# Altium footprint library btretro_pcblib.PcbLib: 40 footprints (part 2 of 3)
Each footprint in its own frame and in the unit in brackets; x right, y up, seen from the top. Pads: shape width x height; smd on the part's side, far side on the other; paste and mask are expansions set on the pad; w line width, h text height; cw(c..) or ccw(c..) is an arc to the next point about the centre after c.
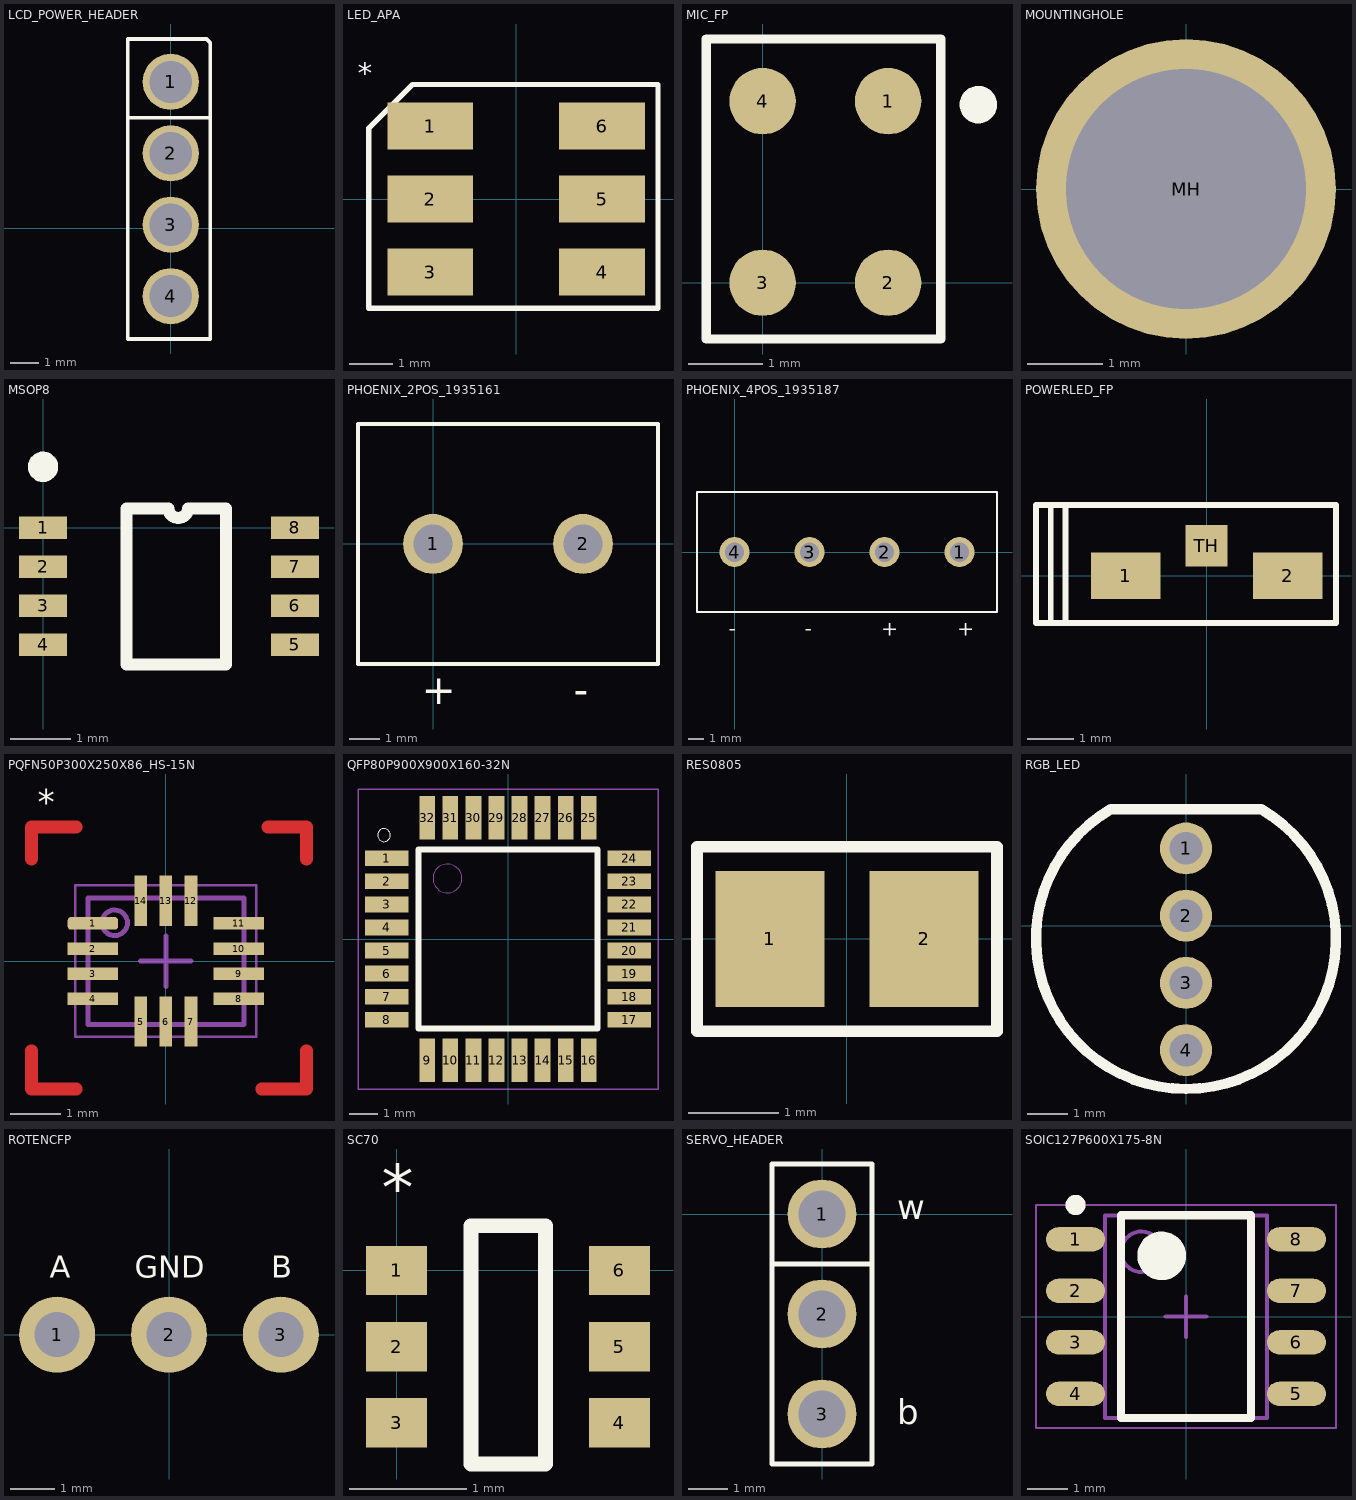
[diagram p1: the footprints below, top view; thin cyan lines are the x and y axes]

## LCD_POWER_HEADER [mm]
pads (4):
  round 2 hole 1.5: 1(0,5.207) 2(0,2.667) 3(0,0.127) 4(0,-2.413)
Top Overlay:
  lines w0.127: -1.524,6.477 -1.524,3.937 1.397,3.937 ; -1.524,6.477 -1.524,-3.937 1.397,-3.937 1.397,3.937 ; -1.524,6.477 -1.524,6.731 1.27,6.731 1.397,6.604 1.397,6.35 1.397,5.493 1.397,4.794 1.397,3.937

## LED_APA [mm]
pads (6):
  rect 2x1.1 smd: 1(-2,1.7) 2(-2,0) 3(-2,-1.7) 4(2,-1.7) 5(2,0) 6(2,1.7)
Top Overlay:
  lines w0.125: -3.429,-2.54 3.302,-2.54 3.302,2.667 -2.413,2.667 -3.429,1.651 -3.429,-2.54
  text "*" at -3.683,2.667 h0.5

## MIC_FP [mm]
pads (4):
  round 0.9 smd: 1(1.7,2.46) 2(1.7,0) 3(0,0) 4(0,2.46)
Top Overlay:
  circle w0.254: c2.921,2.413 r0.127
  lines w0.127: -0.762,-0.762 -0.762,3.302 0.889,3.302 2.413,3.302 2.413,-0.762 -0.762,-0.762

## MOUNTINGHOLE [mm] "mounting hole"
pads (1):
  round 4 hole 3.2 unplated: MH(0,0)

## MSOP8 [mm]
pads (8):
  rect 0.8x0.38 smd: 1(0,0) 2(0,-0.65) 3(0,-1.3) 4(0,-1.95) 5(4.2,-1.95) 6(4.2,-1.3) 7(4.2,-0.65) 8(4.2,0)
Top Overlay:
  circle w0.254: c0,1.016 r0.127
  lines w0.2: 1.389,-2.275 3.048,-2.275 3.048,0.325 2.416,0.325 cw(c2.254,0.325) 2.091,0.325 1.389,0.325 1.389,-2.275

## PHOENIX_2POS_1935161 [mm]
pads (2):
  round 2 hole 1.3: 1(0,0) 2(5,0)
Top Overlay:
  lines w0.127: -2.5,-4 -2.5,4 7.5,4 7.5,-4 -2.5,-4
  text "-" at 4.699,-5.334 h1
  text "+" at -0.381,-5.334 h1

## PHOENIX_4POS_1935187 [mm]
pads (4):
  round 2 hole 1.3: 1(15,0) 2(10,0) 3(5,0) 4(0,0)
Top Overlay:
  lines w0.127: -2.5,-4 -2.5,4 17.5,4 17.5,-4 -2.5,-4
  text "+" at 9.779,-5.588 h1
  text "+" at 14.859,-5.588 h1
  text "-" at -0.381,-5.588 h1
  text "-" at 4.699,-5.588 h1

## POWERLED_FP [mm]
pads (3):
  rect 1.5x1 smd: 1(-1.75,0) 2(1.75,0)
  rect 0.9x0.9 smd: TH(0,0.65)
Top Overlay:
  lines w0.127: -3.365,-1.016 -3.365,1.524 ; -3.048,-1.016 -3.048,1.524 ; -3.048,1.524 2.794,1.524 2.794,1.016 2.794,-1.016 -2.794,-1.016 -3.683,-1.016 -3.683,1.524 -3.048,1.524

## PQFN50P300X250X86_HS-15N [mm] "PQFN, 14-Leads, Body 3.00x2.50mm, Pitch 0.50mm, Thermal Pad 1.45x1.95mm, IPC Medium Density"
height 0.86
pads (14):
  rrect50% 1x0.25 smd mask+0.08: 1(-1.45,0.75)
  rect 1x0.25 smd mask+0.08: 2(-1.45,0.25) 3(-1.45,-0.25) 4(-1.45,-0.75) 8(1.45,-0.75) 9(1.45,-0.25) 10(1.45,0.25) 11(1.45,0.75)
  rect 0.25x1 smd mask+0.08: 5(-0.5,-1.2) 6(0,-1.2) 7(0.5,-1.2) 12(0.5,1.2) 13(0,1.2) 14(-0.5,1.2)
Top Layer:
  lines w0.254: -2.667,-1.778 -2.667,-2.54 -1.778,-2.54 ; -2.667,2.032 -2.667,2.667 -1.778,2.667 ; 1.905,-2.54 2.794,-2.54 2.794,-1.778 ; 2.032,2.667 2.794,2.667 2.794,2.032
Top Overlay:
  text "*" at -2.54,2.921 h0.5
Mechanical 13:
  circle w0.1: c-1.016,0.762 r0.254
  lines w0.1: -1.55,-1.255 -1.55,1.255 1.55,1.255 1.55,-1.255 -1.55,-1.255
Mechanical 15:
  lines w0.05: -1.8,-1.505 -1.8,1.505 1.8,1.505 1.8,-1.505 -1.8,-1.505
  lines w0.1: -0.5,0 0.5,0 ; 0,-0.5 0,0.5
3D body: height 0.86, standoff 0, extent -1.55,-1.255 1.55,1.255

## QFP80P900X900X160-32N [mm]
pads (32):
  rect 1.5x0.55 smd: 1(-4.2,2.8) 2(-4.2,2) 3(-4.2,1.2) 4(-4.2,0.4) 5(-4.2,-0.4) 6(-4.2,-1.2) 7(-4.2,-2) 8(-4.2,-2.8) 17(4.2,-2.8) 18(4.2,-2) 19(4.2,-1.2) 20(4.2,-0.4) 21(4.2,0.4) 22(4.2,1.2) 23(4.2,2) 24(4.2,2.8)
  rect 0.55x1.5 smd: 9(-2.8,-4.2) 10(-2,-4.2) 11(-1.2,-4.2) 12(-0.4,-4.2) 13(0.4,-4.2) 14(1.2,-4.2) 15(2,-4.2) 16(2.8,-4.2) 25(2.8,4.2) 26(2,4.2) 27(1.2,4.2) 28(0.4,4.2) 29(-0.4,4.2) 30(-1.2,4.2) 31(-2,4.2) 32(-2.8,4.2)
Top Overlay:
  circle w0: c-4.3,3.6 r0.224
  lines w0.2: -3.1,-3.1 -3.1,3.1 3.1,3.1 3.1,-3.1 -3.1,-3.1
Mechanical 1:
  circle w0: c-2.1,2.1 r0.5
  lines w0.05: -5.2,-5.2 -5.2,5.2 5.2,5.2 5.2,-5.2 -5.2,-5.2

## RES0805 [mm]
pads (2):
  rect 1.2x1.5 smd: 1(-0.85,0) 2(0.85,0)
Top Overlay:
  lines w0.127: -1.651,-1.016 1.651,-1.016 1.651,1.016 -1.651,1.016 -1.651,-1.016

## RGB_LED [mm]
pads (4):
  round 1.278 hole 0.8: 1(0,1.905) 2(0,0.254) 3(0,-1.397) 4(0,-3.048)
Top Overlay:
  lines w0.254: -1.841,2.87 ccw(c0,-0.32) 1.842,2.87 ; -1.803,2.87 1.803,2.87

## ROTENCFP [mm]
pads (3):
  round 1.7 hole 1: 1(-2.5,0) 2(0,0) 3(2.5,0)
Top Overlay:
  text "B" at 2.286,1.27 h0.5
  text "GND" at -0.762,1.27 h0.5
  text "A" at -2.667,1.27 h0.5

## SC70 [mm]
pads (6):
  rect 0.52x0.42 smd: 1(0,0) 2(0,-0.65) 3(0,-1.3) 4(1.9,-1.3) 5(1.9,-0.65) 6(1.9,0)
Top Overlay:
  lines w0.125: 0.635,-1.651 0.635,0.381 1.27,0.381 1.27,-1.651 0.635,-1.651
  text "*" at -0.127,0.508 h0.4

## SERVO_HEADER [mm]
pads (3):
  round 1.75 hole 1.2: 1(0,0) 2(0,-2.54) 3(0,-5.08)
Top Overlay:
  lines w0.127: 1.27,-1.27 -1.27,-1.27 -1.27,1.27 ; -1.27,1.27 -1.27,-6.35 1.27,-6.35 1.27,1.27 -1.27,1.27
  text "b" at 1.905,-5.334 h0.64
  text "w" at 1.905,-0.127 h0.64

## SOIC127P600X175-8N [mm] "SOIC, 8-Leads, Body 4.90x3.90mm, Pitch 1.27mm, IPC Medium Density"
height 1.75
pads (8):
  oval 1.45x0.6 smd: 1(-2.725,1.905) 2(-2.725,0.635) 3(-2.725,-0.635) 4(-2.725,-1.905) 5(2.725,-1.905) 6(2.725,-0.635) 7(2.725,0.635) 8(2.725,1.905)
Top Overlay:
  circle w0.6: c-0.6,1.5 r0.3
  circle w0.25: c-2.725,2.755 r0.125
  lines w0.2: -1.6,-2.5 1.6,-2.5 1.6,2.5 -1.6,2.5 -1.6,-2.5
Mechanical 13:
  circle w0.1: c-1.1,1.6 r0.5
  lines w0.1: -2,-2.5 2,-2.5 2,2.5 -2,2.5 -2,-2.5
Mechanical 15:
  lines w0.05: -3.7,-2.75 3.7,-2.75 3.7,2.75 -3.7,2.75 -3.7,-2.75
  lines w0.1: -0.5,0 0.5,0 ; 0,-0.5 0,0.5
3D body: height 1.75, standoff 0.1, extent -2,-2.5 2,2.5